# EAGLE library part CURRENT-SENSOR-ACS712 (library IntegerLabs)
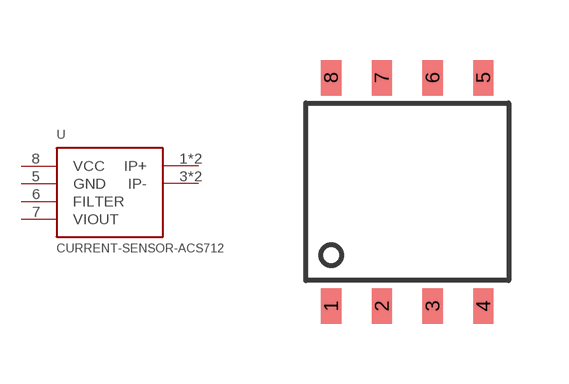
[diagram p24: symbol with the pads of SOIC-8; footprint SOIC-8]

Designator prefix -

## CURRENT-SENSOR-ACS712  [SOIC-8]
1  IP+
2  IP+
3  IP-
4  IP-
5  GND
6  FILTER
7  VIOUT
8  VCC

## Footprint SOIC-8 (pad centres in mm)
smd 0.508 x 0.889: 1 -1.27,-3.175; 2 0,-3.175; 3 1.27,-3.175; 4 2.54,-3.175; 5 2.54,2.54; 6 1.27,2.54; 7 0,2.54; 8 -1.27,2.54